# Altium schematic symbol library HCPL-316J.SchLib: 1 symbol
Pins are listed as number, name and electrical type; pins without a type are passive.

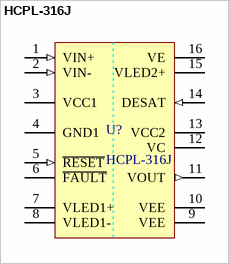
[diagram p0: symbol HCPL-316J]

## HCPL-316J
designator U?
footprint SOIC127P1036X391-16N
pins: 1 VIN+ (in) "Noninverting gate drive voltage output (VOUT) control input.", 2 VIN- (in) "Inverting gate drive voltage output(VOUT) control input.", 3 VCC1 (power) "Positive input supply voltage. (4.5 V to 5.5 V)", 4 GND1 (power) "Input Ground", 5 ~{RESET} (in) "F\A\U\L\T\ reset input.", 6 ~{FAULT} (hiz) "Fault output", 7 VLED1+ "LED 1 anode.", 8 VLED1- "LED 1 cathode.", 9 VEE (power) "Output supply voltage.", 10 VEE (power) "Output supply voltage.", 11 VOUT (out) "Gate drive voltage output.", 12 VC (power) "Collector of output pull-up triple-darlington 0.1 us, asynchronously resets FAULT output high transistor", 13 VCC2 (power) "Positive output supply voltage", 14 DESAT (in) "Desaturation voltage input.", 15 VLED2+ "LED 2 anode.", 16 VE (power) "Common (IGBT emitter) output supply voltage."